# Altium footprint library XCVR_BLUETOOTH-SERIAL-HC-06.PcbLib: 1 footprints
Each footprint in its own frame and in the unit in brackets; x right, y up, seen from the top. Pads: shape width x height; smd on the part's side, far side on the other; paste and mask are expansions set on the pad; w line width, h text height; cw(c..) or ccw(c..) is an arc to the next point about the centre after c.
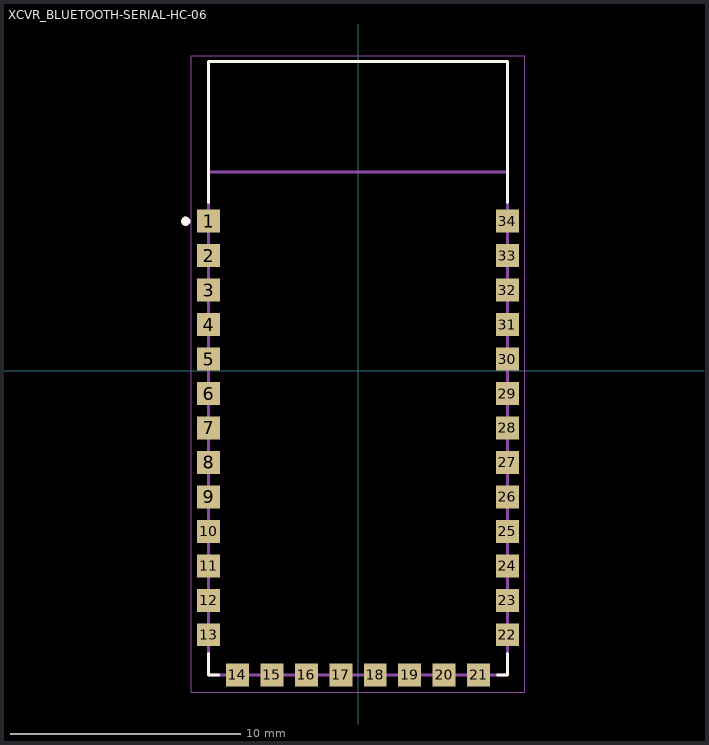
[diagram p0: the footprint, top view; thin cyan lines are the x and y axes]

## XCVR_BLUETOOTH-SERIAL-HC-06 [mm]
height 2
pads (34):
  rect 1x1 smd: 1(-6.5,6.5) 2(-6.5,5) 3(-6.5,3.5) 4(-6.5,2) 5(-6.5,0.5) 6(-6.5,-1) 7(-6.5,-2.5) 8(-6.5,-4) 9(-6.5,-5.5) 10(-6.5,-7) 11(-6.5,-8.5) 12(-6.5,-10) 13(-6.5,-11.5) 14(-5.25,-13.25) 15(-3.75,-13.25) 16(-2.25,-13.25) 17(-0.75,-13.25) 18(0.75,-13.25) 19(2.25,-13.25) 20(3.75,-13.25) 21(5.25,-13.25) 22(6.5,-11.5) 23(6.5,-10) 24(6.5,-8.5) 25(6.5,-7) 26(6.5,-5.5) 27(6.5,-4) 28(6.5,-2.5) 29(6.5,-1) 30(6.5,0.5) 31(6.5,2) 32(6.5,3.5) 33(6.5,5) 34(6.5,6.5)
Top Overlay:
  circle w0.2: c-7.5,6.5 r0.1
  lines w0.127: -6.5,-12.314 -6.5,-13.25 -6.064,-13.25 ; -6.5,7.314 -6.5,13.45 6.5,13.45 6.5,7.314 ; 6.064,-13.25 6.5,-13.25 6.5,-12.314
Mechanical 13:
  circle w0.2: c-7.5,6.5 r0.1
  lines w0.127: -6.5,8.65 -6.5,-13.25 6.5,-13.25 6.5,8.65 ; -6.5,8.65 -6.5,13.45 6.5,13.45 6.5,8.65 ; -6.5,8.65 6.5,8.65
  text "ANTENNA" at -3.81,10.16 h1.27
Mechanical 15:
  lines w0.05: -7.25,-14 7.25,-14 7.25,13.7 -7.25,13.7 -7.25,-14